# Altium footprint library AliPadash_New.PcbLib: 58 footprints (part 3 of 4)
Each footprint in its own frame and in the unit in brackets; x right, y up, seen from the top. Pads: shape width x height; smd on the part's side, far side on the other; paste and mask are expansions set on the pad; w line width, h text height; cw(c..) or ccw(c..) is an arc to the next point about the centre after c.
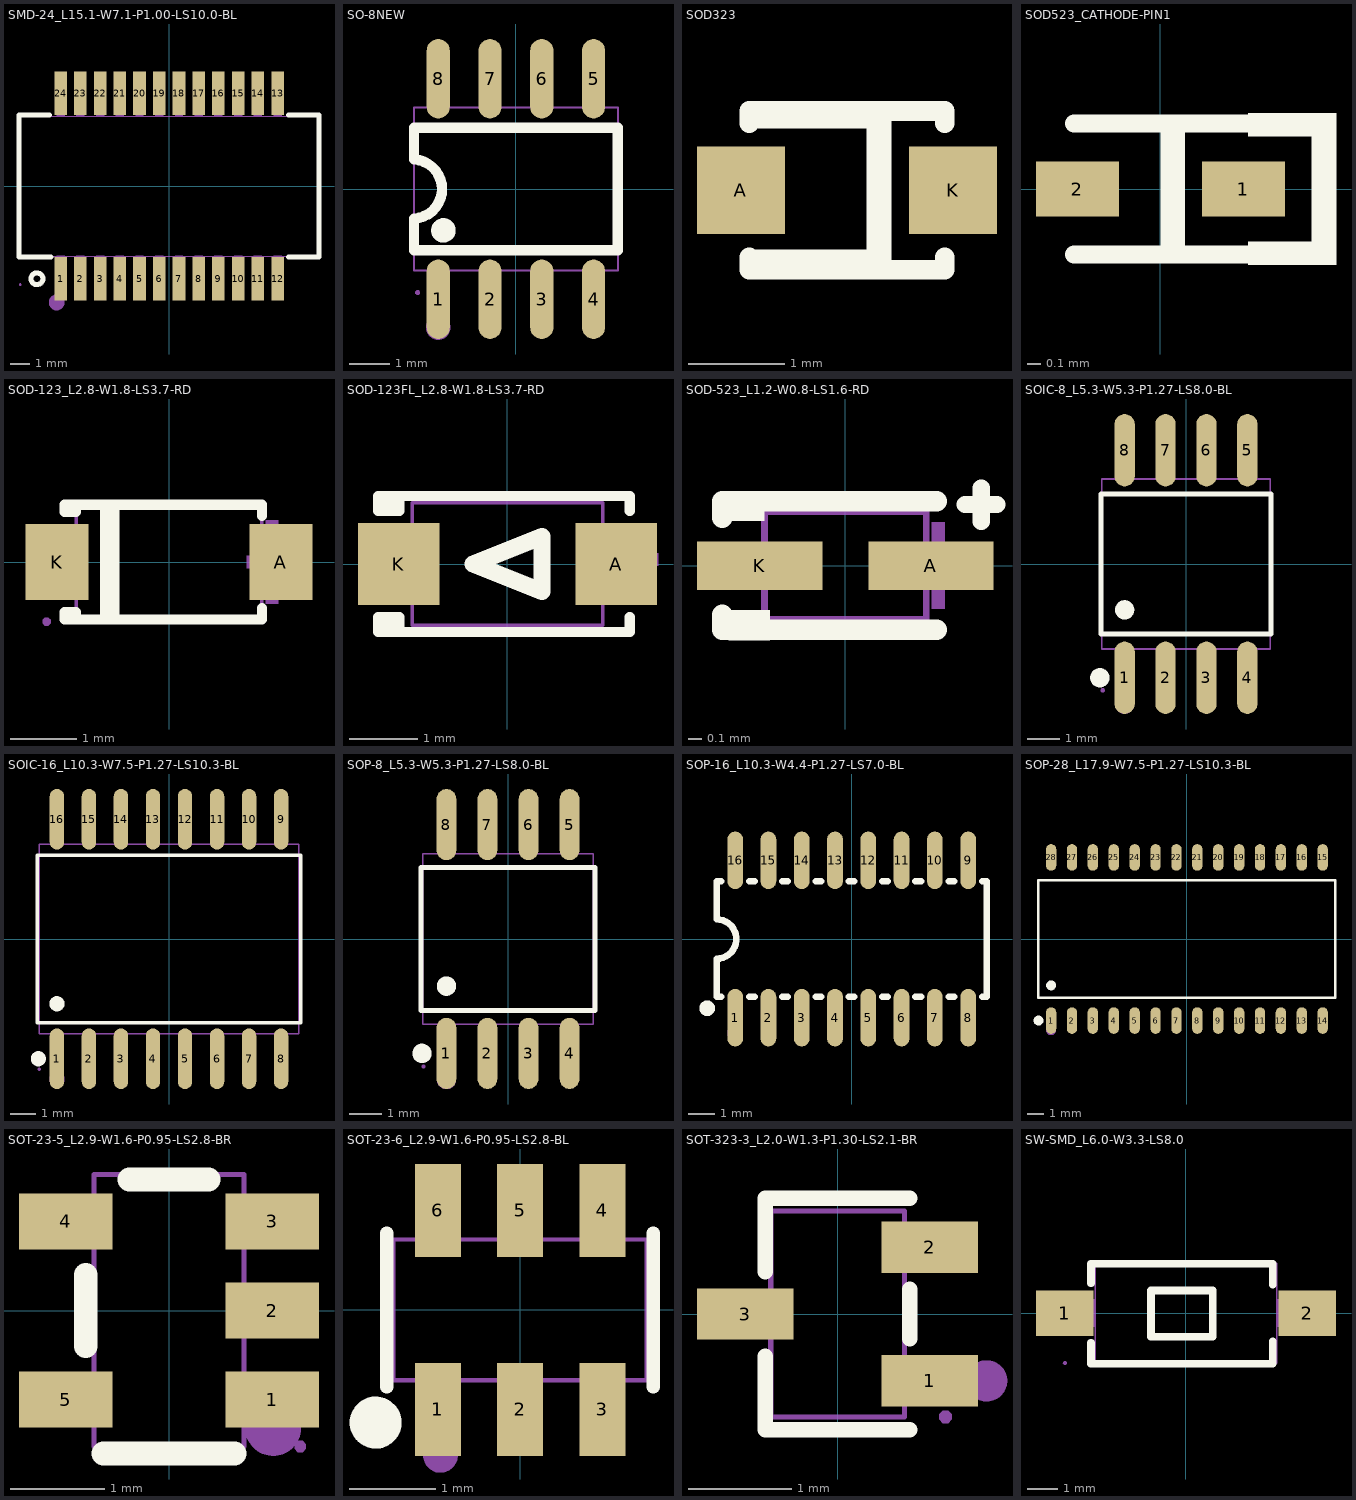
[diagram p2: the footprints below, top view; thin cyan lines are the x and y axes]

## SMD-24_L15.1-W7.1-P1.00-LS10.0-BL [mm]
pads (24):
  rect 0.64x2.2 smd: 1(-5.5,-4.7) 2(-4.5,-4.7) 3(-3.5,-4.7) 4(-2.5,-4.7) 5(-1.5,-4.7) 6(-0.5,-4.7) 7(0.5,-4.7) 8(1.5,-4.7) 9(2.5,-4.7) 10(3.5,-4.7) 11(4.5,-4.7) 12(5.5,-4.7) 13(5.5,4.7) 14(4.5,4.7) 15(3.5,4.7) 16(2.5,4.7) 17(1.5,4.7) 18(0.5,4.7) 19(-0.5,4.7) 20(-1.5,4.7) 21(-2.5,4.7) 22(-3.5,4.7) 23(-4.5,4.7) 24(-5.5,4.7)
Top Overlay:
  circle w0.254: c-6.7,-4.7 r0.3
  lines w0.254: -6.051,3.6 -7.6,3.6 -7.6,-3.6 -6,-3.6 ; 6.051,-3.6 7.6,-3.6 7.6,3.6 6.051,3.6
Mechanical 6:
  circle w0.4: c-5.7,-5.9 r0.2
Mechanical 15:
  drawing of 53 lines, arcs and shapes, not listed

## SO-8NEW [mil]
pads (8):
  oval 22.38x76.78 smd: 1(-75,-106.5) 2(-25,-106.5) 3(25,-106.5) 4(75,-106.5) 5(75,106.5) 6(25,106.5) 7(-25,106.5) 8(-75,106.5)
Top Overlay:
  circle w11.81: c-70,-40 r5.91
  lines w10: -98.43,-28.61 ccw(c-99.99,0) -98.23,28.59 ; -98.42,-28.61 -98.42,-59.05 98.42,-59.05 98.42,59.05 -98.42,59.05 -98.42,28.59
Mechanical 6:
  circle w11.81: c-75,-133.86 r5.91
Mechanical 15:
  region: -92.64,-100 -92.64,-99.02 -94.02,-97.64 -95.98,-97.64 -97.36,-99.02 -97.36,-100 -97.36,-100.98 -95.98,-102.36 -94.02,-102.36 -92.64,-100.98
  region: 66.93,76.38 66.93,85.63 83.07,85.63 83.07,76.38
  region: 66.93,85.24 66.93,118.11 83.07,118.11 83.07,85.24
  region: 16.93,76.38 16.93,85.63 33.07,85.63 33.07,76.38
  region: 16.93,85.24 16.93,118.11 33.07,118.11 33.07,85.24
  region: -33.07,76.38 -33.07,85.63 -16.93,85.63 -16.93,76.38
  region: -33.07,85.24 -33.07,118.11 -16.93,118.11 -16.93,85.24
  region: -83.07,76.38 -83.07,85.63 -66.93,85.63 -66.93,76.38
  region: -83.07,85.24 -83.07,118.11 -66.93,118.11 -66.93,85.24
  region: 66.93,-85.63 66.93,-76.38 83.07,-76.38 83.07,-85.63
  region: 66.93,-118.11 66.93,-85.24 83.07,-85.24 83.07,-118.11
  region: 16.93,-85.63 16.93,-76.38 33.07,-76.38 33.07,-85.63
  region: 16.93,-118.11 16.93,-85.24 33.07,-85.24 33.07,-118.11
  region: -33.07,-85.63 -33.07,-76.38 -16.93,-76.38 -16.93,-85.63
  region: -33.07,-118.11 -33.07,-85.24 -16.93,-85.24 -16.93,-118.11
  region: -83.07,-85.63 -83.07,-76.38 -66.93,-76.38 -66.93,-85.63
  region: -83.07,-118.11 -83.07,-85.24 -66.93,-85.24 -66.93,-118.11
  lines w2: -98.42,-78.74 -98.42,78.74 98.42,78.74 98.42,-78.74 -98.42,-78.74

## SOD323 [mil]
pads (2):
  rect 36x36 smd: A(-550.5,184.1) K(-463.5,184.1)
Top Overlay:
  region: -548.02,149.62 -488.89,149.62 -488.89,219.62 -548.02,219.62 -548.02,209.62 -498.89,209.62 -498.89,159.62 -548.02,159.62
  lines w8: -547,156.6 -547,151.6 -467,151.6 -467,156.6 ; -547,211.6 -547,216.6 -467,216.6 -467,211.6
Mechanical 24:
  text "1" at -471.5,188.04 h20
  text "2" at -558.5,188.04 h20

## SOD523_CATHODE-PIN1 [mm]
pads (2):
  rect 0.6x0.4 smd mask+0.05: 1(0.6,0) 2(-0.6,0)
Top Overlay:
  rectangle: 0,-0.475 0.178,0.497
  region: 1.093,-0.381 1.093,0.381 0.635,0.381 0.635,0.546 1.27,0.546 1.27,-0.546 0.635,-0.546 0.635,-0.381
  lines w0.13: -0.625,-0.475 0.625,-0.475 ; -0.625,0.475 0.625,0.475
Mechanical 24:
  text "2" at -0.6,0.203 h0.51
  text "1" at 0.6,0.203 h0.51

## SOD-123_L2.8-W1.8-LS3.7-RD [mm]
pads (2):
  rect 0.95x1.15 smd paste+0 mask+0.051: A(1.692,0) K(-1.692,0)
Top Overlay:
  lines w0.152: -0.97,-0.866 -0.97,0.866 ; -0.827,-0.866 -0.827,0.866 ; 1.406,-0.698 1.406,-0.866 -1.406,-0.866 ; 1.406,0.698 1.406,0.866 -1.406,0.866 ; -1.406,-0.866 -1.406,-0.755 -1.58,-0.755 -1.58,-0.866 -1.406,-0.866 ; -1.406,0.866 -1.406,0.755 -1.58,0.755 -1.58,0.866 -1.406,0.866
Mechanical 6:
  region: 1.651,0.635 1.651,-0.629 1.461,-0.629 1.461,0.635
  region: 1.935,0.098 1.935,-0.092 1.177,-0.092 1.177,0.098
  region: -2.03,0.095 -2.03,-0.095 -1.272,-0.095 -1.272,0.095
Mechanical 15:
  region: 1.851,-0.465 1.851,0.465 1.301,0.465 1.301,-0.465
  region: -1.851,-0.465 -1.851,0.465 -1.301,0.465 -1.301,-0.465
  region: -1.79,-0.9 -1.79,-0.875 -1.826,-0.84 -1.875,-0.84 -1.91,-0.875 -1.91,-0.9 -1.91,-0.925 -1.875,-0.96 -1.826,-0.96 -1.79,-0.925
  lines w0.051: -1.4,-0.9 1.4,-0.9 1.4,0.9 -1.4,0.9 -1.4,-0.9

## SOD-123FL_L2.8-W1.8-LS3.7-RD [mm]
pads (2):
  rect 1.2x1.2 smd paste+0 mask+0.051: A(1.6,0) K(-1.6,0)
Top Overlay:
  lines w0.152: -1.791,-1 -1.791,-0.78 ; -1.791,0.78 -1.791,1 ; -1.691,-1 -1.691,-0.78 ; -1.691,0.78 -1.691,1 ; -1.591,-1 -1.591,-0.78 -1.9,-0.78 -1.9,-1 1.6,-1 1.8,-1 1.8,-0.78 ; -1.591,1 -1.591,0.78 -1.9,0.78 -1.9,1 1.4,1 ; 1.2,1 1.8,1 1.8,0.78
  lines w0.254: -0.508,0 0.508,-0.406 0.508,0.406 -0.508,0
Mechanical 6:
  region: 1.656,-0.436 1.656,0.444 1.836,0.444 1.836,-0.436
  region: 2.216,-0.024 1.336,-0.024 1.336,0.156 2.216,0.156
  region: -1.314,-0.094 -2.194,-0.094 -2.194,0.086 -1.314,0.086
Mechanical 15:
  region: -1.85,0.475 -1.05,0.475 -1.05,-0.475 -1.85,-0.475
  region: 1.05,0.475 1.85,0.475 1.85,-0.475 1.05,-0.475
  region: -1.79,-0.9 -1.79,-0.875 -1.825,-0.84 -1.875,-0.84 -1.91,-0.875 -1.91,-0.9 -1.91,-0.925 -1.875,-0.96 -1.825,-0.96 -1.79,-0.925
  lines w0.051: -1.4,-0.9 1.4,-0.9 1.4,0.9 -1.4,0.9 -1.4,-0.9

## SOD-523_L1.2-W0.8-LS1.6-RD [mm]
pads (2):
  rect 0.93x0.36 smd paste+0 mask+0.051: A(0.635,0) K(-0.635,0)
Top Overlay:
  region: -0.6,0.552 -0.6,0.332 -0.905,0.332 -0.905,0.552
  region: -0.56,-0.552 -0.56,-0.332 -0.864,-0.332 -0.864,-0.552
  lines w0.127: 0.89,0.453 1.125,0.453 ; 1.008,0.327 1.008,0.576
  lines w0.152: -0.914,-0.363 -0.914,-0.476 -0.676,-0.476 0.676,-0.476 ; -0.914,0.356 -0.914,0.476 -0.676,0.476 0.676,0.476
Mechanical 6:
  region: -0.887,0.055 -0.887,-0.041 -0.503,-0.041 -0.503,0.055
  region: 0.88,0.048 0.88,-0.048 0.496,-0.048 0.496,0.048
  region: 0.736,0.32 0.736,-0.32 0.64,-0.32 0.64,0.32
Mechanical 15:
  region: -0.74,-0.4 -0.74,-0.376 -0.775,-0.341 -0.824,-0.341 -0.859,-0.375 -0.86,-0.4 -0.859,-0.424 -0.825,-0.459 -0.776,-0.459 -0.741,-0.424
  region: -0.8,-0.15 -0.8,0.15 -0.2,0.15 -0.2,-0.15
  region: 0.8,-0.15 0.8,0.15 0.2,0.15 0.2,-0.15
  lines w0.051: -0.6,-0.4 -0.6,0.4 0.6,0.4 0.6,-0.4 -0.6,-0.4

## SOIC-8_L5.3-W5.3-P1.27-LS8.0-BL [mm]
pads (8):
  oval 0.63x2.25 smd paste+0 mask+0.051: 1(-1.905,-3.53) 2(-0.635,-3.53) 3(0.635,-3.53) 4(1.905,-3.53) 5(1.905,3.53) 6(0.635,3.53) 7(-0.635,3.53) 8(-1.905,3.53)
Top Overlay:
  circle w0.3: c-1.905,-1.424 r0.15
  circle w0.3: c-2.672,-3.53 r0.15
  lines w0.152: -2.639,-2.176 -2.639,2.176 2.639,2.176 2.639,-2.176 -2.639,-2.176
Mechanical 6:
  circle w0.3: c-1.905,-4.35 r0.15
Mechanical 15:
  region: -2.525,-3.92 -2.525,-3.895 -2.56,-3.86 -2.61,-3.86 -2.645,-3.895 -2.645,-3.92 -2.645,-3.945 -2.61,-3.98 -2.56,-3.98 -2.525,-3.945
  region: -2.13,-3.95 -2.13,-3.3 -1.68,-3.3 -1.68,-3.95
  region: -2.13,-3.31 -2.13,-2.595 -1.68,-2.595 -1.68,-3.31
  region: -0.86,-3.95 -0.86,-3.3 -0.41,-3.3 -0.41,-3.95
  region: -0.86,-3.31 -0.86,-2.595 -0.41,-2.595 -0.41,-3.31
  region: 0.41,-3.95 0.41,-3.3 0.86,-3.3 0.86,-3.95
  region: 0.41,-3.31 0.41,-2.595 0.86,-2.595 0.86,-3.31
  region: 1.68,-3.95 1.68,-3.3 2.13,-3.3 2.13,-3.95
  region: 1.68,-3.31 1.68,-2.595 2.13,-2.595 2.13,-3.31
  region: -2.13,3.95 -2.13,3.3 -1.68,3.3 -1.68,3.95
  region: -2.13,3.31 -2.13,2.595 -1.68,2.595 -1.68,3.31
  region: -0.86,3.95 -0.86,3.3 -0.41,3.3 -0.41,3.95
  region: -0.86,3.31 -0.86,2.595 -0.41,2.595 -0.41,3.31
  region: 0.41,3.95 0.41,3.3 0.86,3.3 0.86,3.95
  region: 0.41,3.31 0.41,2.595 0.86,2.595 0.86,3.31
  region: 1.68,3.95 1.68,3.3 2.13,3.3 2.13,3.95
  region: 1.68,3.31 1.68,2.595 2.13,2.595 2.13,3.31
  lines w0.051: -2.615,-2.64 -2.615,2.64 2.615,2.64 2.615,-2.64 -2.615,-2.64

## SOIC-16_L10.3-W7.5-P1.27-LS10.3-BL [mm]
pads (16):
  oval 0.574x2.401 smd: 1(-4.445,-4.75) 2(-3.175,-4.75) 3(-1.905,-4.75) 4(-0.635,-4.75) 5(0.635,-4.75) 6(1.905,-4.75) 7(3.175,-4.75) 8(4.445,-4.75) 9(4.445,4.75) 10(3.175,4.75) 11(1.905,4.75) 12(0.635,4.75) 13(-0.635,4.75) 14(-1.905,4.75) 15(-3.175,4.75) 16(-4.445,4.75)
Top Overlay:
  circle w0.3: c-4.445,-2.569 r0.15
  circle w0.3: c-5.184,-4.75 r0.15
  lines w0.152: -5.226,-3.321 -5.226,3.321 5.226,3.321 5.226,-3.321 -5.226,-3.321
Mechanical 6:
  circle w0.3: c-4.445,-5.563 r0.15
Mechanical 15:
  drawing of 37 lines, arcs and shapes, not listed

## SOP-8_L5.3-W5.3-P1.27-LS8.0-BL [mm]
pads (8):
  oval 0.609x2.204 smd paste+0 mask+0.051: 1(-1.905,-3.542) 2(-0.635,-3.542) 3(0.635,-3.542) 4(1.905,-3.542) 5(1.905,3.542) 6(0.635,3.542) 7(-0.635,3.542) 8(-1.905,3.542)
Top Overlay:
  circle w0.3: c-1.905,-1.459 r0.15
  circle w0.3: c-2.662,-3.542 r0.15
  lines w0.152: -2.691,-2.211 -2.691,2.211 2.691,2.211 2.691,-2.211 -2.691,-2.211
Mechanical 6:
  circle w0.3: c-1.905,-4.35 r0.15
Mechanical 15:
  region: -2.555,-3.95 -2.555,-3.925 -2.59,-3.891 -2.639,-3.891 -2.674,-3.925 -2.675,-3.95 -2.674,-3.974 -2.639,-4.009 -2.59,-4.009 -2.555,-3.974
  region: -2.123,-3.95 -2.123,-3.3 -1.687,-3.3 -1.687,-3.95
  region: -2.123,-3.31 -2.123,-2.63 -1.687,-2.63 -1.687,-3.31
  region: -0.853,-3.95 -0.853,-3.3 -0.417,-3.3 -0.417,-3.95
  region: -0.853,-3.31 -0.853,-2.63 -0.417,-2.63 -0.417,-3.31
  region: 0.417,-3.95 0.417,-3.3 0.853,-3.3 0.853,-3.95
  region: 0.417,-3.31 0.417,-2.63 0.853,-2.63 0.853,-3.31
  region: 1.687,-3.95 1.687,-3.3 2.123,-3.3 2.123,-3.95
  region: 1.687,-3.31 1.687,-2.63 2.123,-2.63 2.123,-3.31
  region: -2.123,3.95 -2.123,3.3 -1.687,3.3 -1.687,3.95
  region: -2.123,3.31 -2.123,2.63 -1.687,2.63 -1.687,3.31
  region: -0.853,3.95 -0.853,3.3 -0.417,3.3 -0.417,3.95
  region: -0.853,3.31 -0.853,2.63 -0.417,2.63 -0.417,3.31
  region: 0.417,3.95 0.417,3.3 0.853,3.3 0.853,3.95
  region: 0.417,3.31 0.417,2.63 0.853,2.63 0.853,3.31
  region: 1.687,3.95 1.687,3.3 2.123,3.3 2.123,3.95
  region: 1.687,3.31 1.687,2.63 2.123,2.63 2.123,3.31
  lines w0.051: -2.64,-2.64 -2.64,2.64 2.64,2.64 2.64,-2.64 -2.64,-2.64

## SOP-16_L10.3-W4.4-P1.27-LS7.0-BL [mm]
pads (16):
  oval 0.6x2.2 smd paste+0 mask+0.051: 1(-4.445,-3) 2(-3.175,-3) 3(-1.905,-3) 4(-0.635,-3) 5(0.635,-3) 6(1.905,-3) 7(3.175,-3) 8(4.445,-3) 9(4.445,3) 10(3.175,3) 11(1.905,3) 12(0.635,3) 13(-0.635,3) 14(-1.905,3) 15(-3.175,3) 16(-4.445,3)
Top Overlay:
  lines w0.254: -4.976,-2.2 -5.15,-2.2 -5.15,-0.75 ccw(c-5.15,-0.001) -5.15,0.75 -5.15,2.2 -4.976,2.2 ; -3.914,-2.2 -3.706,-2.2 ; -3.914,2.2 -3.706,2.2 ; -2.644,-2.2 -2.436,-2.2 ; -2.644,2.2 -2.436,2.2 ; -1.374,-2.2 -1.166,-2.2 ; -1.374,2.2 -1.166,2.2 ; -0.104,-2.2 0.104,-2.2 ; -0.104,2.2 0.104,2.2 ; 1.166,-2.2 1.374,-2.2 ; 1.166,2.2 1.374,2.2 ; 2.436,-2.2 2.644,-2.2 ; 2.436,2.2 2.644,2.2 ; 3.706,-2.2 3.914,-2.2 ; 3.706,2.2 3.914,2.2 ; 4.976,-2.2 5.15,-2.2 5.15,2.2 4.976,2.2
  lines w0.3: -5.513,-2.492 ccw(c-5.512,-2.642) -5.511,-2.492
Mechanical 15:
  circle w0.3: c-4.445,-3.582 r0.15

## SOP-28_L17.9-W7.5-P1.27-LS10.3-BL [mm]
pads (28):
  oval 0.63x1.615 smd paste+0 mask+0.051: 1(-8.255,-4.957) 2(-6.985,-4.957) 3(-5.715,-4.957) 4(-4.445,-4.957) 5(-3.175,-4.957) 6(-1.905,-4.957) 7(-0.635,-4.957) 8(0.635,-4.957) 9(1.905,-4.957) 10(3.175,-4.957) 11(4.445,-4.957) 12(5.715,-4.957) 13(6.985,-4.957) 14(8.255,-4.957) 15(8.255,4.957) 16(6.985,4.957) 17(5.715,4.957) 18(4.445,4.957) 19(3.175,4.957) 20(1.905,4.957) 21(0.635,4.957) 22(-0.635,4.957) 23(-1.905,4.957) 24(-3.175,4.957) 25(-4.445,4.957) 26(-5.715,4.957) 27(-6.985,4.957) 28(-8.255,4.957)
Top Overlay:
  circle w0.3: c-9.022,-4.958 r0.15
  circle w0.3: c-8.255,-2.819 r0.15
  lines w0.152: -9.026,-3.571 9.026,-3.571 9.026,3.571 -9.026,3.571 -9.026,-3.571
Mechanical 15:
  circle w0.3: c-8.255,-5.55 r0.15

## SOT-23-5_L2.9-W1.6-P0.95-LS2.8-BR [mm]
pads (5):
  rect 1x0.6 smd paste+0 mask+0.05: 1(1.1,-0.95) 2(1.1,0) 3(1.1,0.95) 4(-1.1,0.95) 5(-1.1,-0.95)
Top Overlay:
  lines w0.254: -0.889,-0.381 -0.889,0.381 ; -0.698,-1.524 0.699,-1.524 ; -0.422,1.397 0.422,1.397
Mechanical 6:
  circle w0.3: c1.11,-1.25 r0.15
Mechanical 15:
  region: 0.96,-0.2 0.79,-0.2 0.79,0.2 0.96,0.2
  region: 1.4,-0.2 0.95,-0.2 0.95,0.2 1.4,0.2
  region: 0.96,0.75 0.79,0.75 0.79,1.15 0.96,1.15
  region: 1.4,0.75 0.95,0.75 0.95,1.15 1.4,1.15
  region: 0.96,-1.15 0.79,-1.15 0.79,-0.75 0.96,-0.75
  region: 1.4,-1.15 0.95,-1.15 0.95,-0.75 1.4,-0.75
  region: -0.79,0.75 -0.96,0.75 -0.96,1.15 -0.79,1.15
  region: -0.95,0.75 -1.4,0.75 -1.4,1.15 -0.95,1.15
  region: -0.79,-1.15 -0.96,-1.15 -0.96,-0.75 -0.79,-0.75
  region: -0.95,-1.15 -1.4,-1.15 -1.4,-0.75 -0.95,-0.75
  region: 1.46,-1.45 1.46,-1.425 1.425,-1.39 1.375,-1.39 1.34,-1.425 1.34,-1.45 1.34,-1.475 1.375,-1.51 1.425,-1.51 1.46,-1.475
  lines w0.051: -0.8,-1.45 -0.8,1.45 0.8,1.45 0.8,-1.45 -0.8,-1.45

## SOT-23-6_L2.9-W1.6-P0.95-LS2.8-BL [mm]
pads (6):
  rect 0.532x1.072 smd paste+0 mask+0.051: 1(-0.95,-1.149) 2(0,-1.149) 3(0.95,-1.149) 4(0.95,1.149) 5(0,1.149) 6(-0.95,1.149)
Top Overlay:
  circle w0.3: c-1.668,-1.301 r0.15
  lines w0.152: -1.539,-0.889 -1.539,0.889 ; 1.539,-0.889 1.539,0.889
Mechanical 6:
  circle w0.2: c-0.92,-1.68 r0.1
Mechanical 15:
  region: -1.165,0.935 -0.735,0.935 -0.735,0.803 -1.165,0.803
  region: -1.165,0.925 -0.735,0.925 -0.735,1.4 -1.165,1.4
  region: -0.215,0.935 0.215,0.935 0.215,0.803 -0.215,0.803
  region: -0.215,0.925 0.215,0.925 0.215,1.4 -0.215,1.4
  region: 0.735,0.935 1.165,0.935 1.165,0.803 0.735,0.803
  region: 0.735,0.925 1.165,0.925 1.165,1.4 0.735,1.4
  region: 0.735,-0.803 1.165,-0.803 1.165,-0.935 0.735,-0.935
  region: 0.735,-0.925 1.165,-0.925 1.165,-1.4 0.735,-1.4
  region: -0.215,-0.803 0.215,-0.803 0.215,-0.935 -0.215,-0.935
  region: -0.215,-0.925 0.215,-0.925 0.215,-1.4 -0.215,-1.4
  region: -1.165,-0.803 -0.735,-0.803 -0.735,-0.935 -1.165,-0.935
  region: -1.165,-0.925 -0.735,-0.925 -0.735,-1.4 -1.165,-1.4
  region: -1.403,-1.4 -1.404,-1.376 -1.439,-1.341 -1.488,-1.341 -1.522,-1.376 -1.523,-1.4 -1.522,-1.425 -1.487,-1.459 -1.438,-1.459 -1.404,-1.424
  lines w0.051: -1.463,-0.813 -1.463,0.813 1.463,0.813 1.463,-0.813 -1.463,-0.813

## SOT-323-3_L2.0-W1.3-P1.30-LS2.1-BR [mm]
pads (3):
  rect 0.936x0.5 smd paste+0 mask+0.051: 1(0.898,-0.65) 2(0.898,0.65) 3(-0.898,0)
Top Overlay:
  lines w0.152: -0.701,-0.411 -0.701,-1.126 0.701,-1.126 ; -0.701,0.411 -0.701,1.126 0.701,1.126 ; 0.701,-0.239 0.701,0.239
Mechanical 6:
  circle w0.2: c1.45,-0.65 r0.1
Mechanical 15:
  region: 0.75,-0.825 0.75,-0.475 1.05,-0.475 1.05,-0.825
  region: 0.64,-0.825 0.64,-0.475 0.76,-0.475 0.76,-0.825
  region: 0.75,0.475 0.75,0.825 1.05,0.825 1.05,0.475
  region: 0.64,0.475 0.64,0.825 0.76,0.825 0.76,0.475
  region: -1.05,-0.175 -1.05,0.175 -0.75,0.175 -0.75,-0.175
  region: -0.76,-0.175 -0.76,0.175 -0.64,0.175 -0.64,-0.175
  region: 1.11,-1 1.11,-0.975 1.075,-0.94 1.025,-0.94 0.99,-0.975 0.99,-1 0.99,-1.025 1.025,-1.06 1.075,-1.06 1.11,-1.025
  lines w0.051: -0.65,-1 0.65,-1 0.65,1 -0.65,1 -0.65,-1

## SW-SMD_L6.0-W3.3-LS8.0 [mm]
pads (2):
  rect 1.9x1.5 smd paste+0 mask+0.051: 1(-4,0) 2(4,0)
Top Overlay:
  lines w0.254: -3.137,-0.981 -3.137,-1.668 2.863,-1.668 2.863,-0.935 ; -3.137,0.981 -3.137,1.632 2.863,1.632 2.863,0.935 ; -1.153,-0.78 0.879,-0.78 0.879,0.744 -1.153,0.744 -1.153,-0.78
Mechanical 15:
  region: -3.939,-1.65 -3.94,-1.626 -3.975,-1.593 -4.023,-1.593 -4.058,-1.626 -4.059,-1.65 -4.058,-1.674 -4.023,-1.707 -3.975,-1.707 -3.94,-1.674
  region: -3.999,-0.45 -3.999,0.45 -3.299,0.45 -3.299,-0.45
  region: 3.3,-0.45 3.3,0.45 4,0.45 4,-0.45
  region: 3.62,0.45 3.62,-0.45 2.99,-0.45 2.99,0.45
  region: -3.62,-0.45 -3.62,0.45 -2.99,0.45 -2.99,-0.45
  lines w0.051: -3,-1.65 -3,1.65 3,1.65 3,-1.65 -3,-1.65